# Altium schematic symbol library BAW56.SchLib: 1 symbol
Pins are listed as number, name and electrical type; pins without a type are passive.

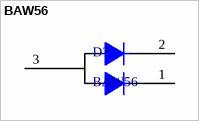
[diagram p0: symbol BAW56]

## BAW56
designator D?
footprint SOT23
pins: 1, 2, 3